# Altium footprint library mechParts.PcbLib: 7 footprints
Each footprint in its own frame and in the unit in brackets; x right, y up, seen from the top. Pads: shape width x height; smd on the part's side, far side on the other; paste and mask are expansions set on the pad; w line width, h text height; cw(c..) or ccw(c..) is an arc to the next point about the centre after c.
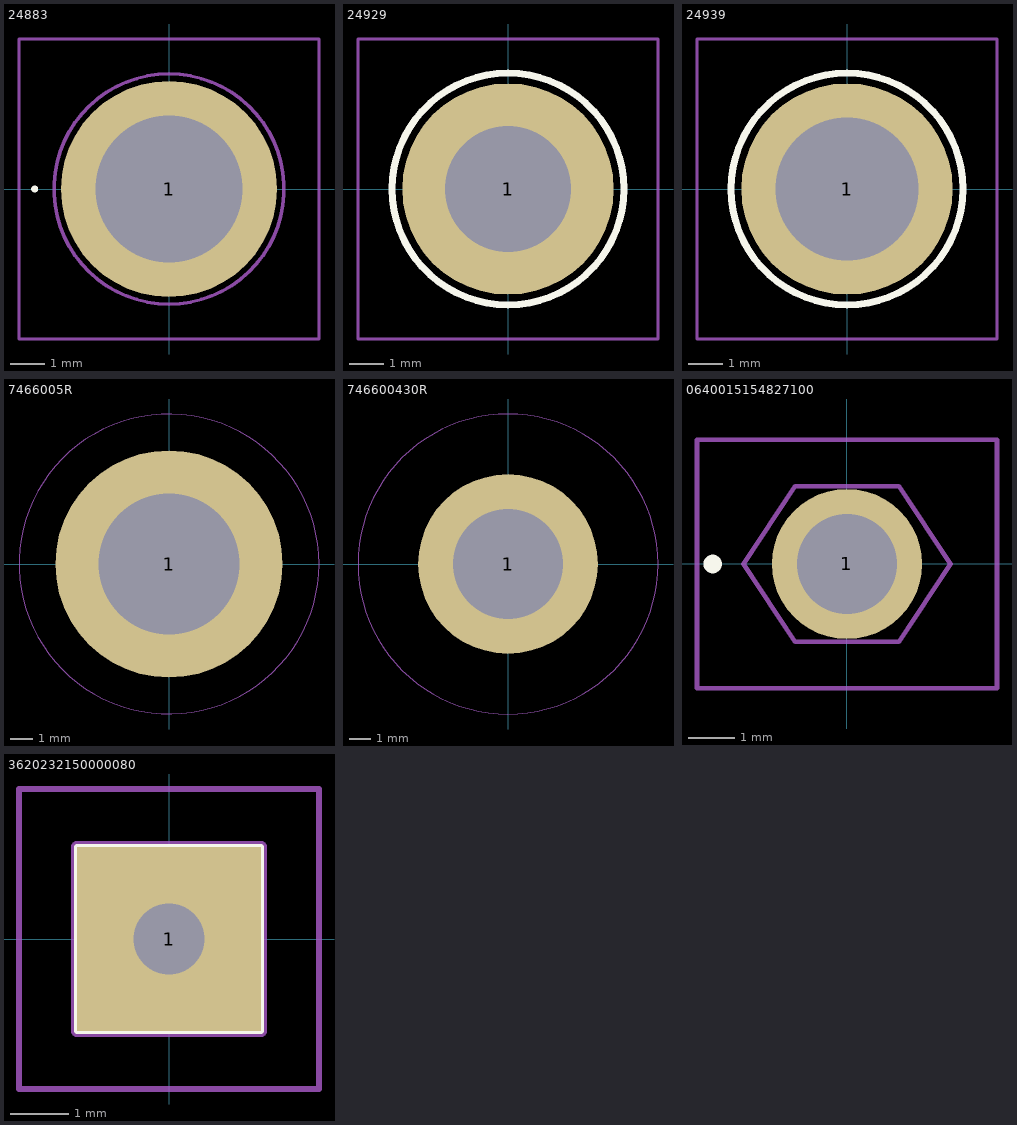
[diagram p0: the footprints below, top view; thin cyan lines are the x and y axes]

## 24883 [mm]
pads (1):
  round 6.2 hole 4.2: 1(0,0)
Top Overlay:
  lines w0.1: -3.9,0 cw(c-3.85,0) -3.8,0 cw(c-3.85,0) -3.9,0
Mechanical 13:
  lines w0.1: 0,-3.3 cw(c0,0) 0,3.3 cw(c0,0) 0,-3.3
Mechanical 15:
  lines w0.1: -4.3,-4.3 -4.3,4.3 4.3,4.3 4.3,-4.3 -4.3,-4.3
3D body "24883.stp": height 5.52, standoff 0, extent -2.781,-2.781 2.781,2.781

## 24929 [mm]
pads (1):
  round 6.2 hole 3.7: 1(0,0)
Top Overlay:
  lines w0.2: -3.4,0 cw(c0,0) 3.4,0 cw(c0,0) -3.4,0
Mechanical 13:
  lines w0.1: -2.78,0 cw(c0,0) 2.78,0 cw(c0,0) -2.78,0
Mechanical 15:
  lines w0.1: -4.4,-4.4 -4.4,4.4 4.4,4.4 4.4,-4.4 -4.4,-4.4
3D body "24929.stp": height 0.13, standoff -1.7, extent -2.781,-2.781 2.781,2.781

## 24939 [mm]
pads (1):
  round 6.2 hole 4.2: 1(0,0)
Top Overlay:
  lines w0.2: -3.4,0 ccw(c0,0) 3.4,0 ccw(c0,0) -3.4,0
Mechanical 13:
  lines w0.1: -2.78,0 ccw(c0,0) 2.78,0 ccw(c0,0) -2.78,0
Mechanical 15:
  lines w0.1: -4.4,-4.4 4.4,-4.4 4.4,4.4 -4.4,4.4 -4.4,-4.4
3D body "24939.stp": height 0.33, standoff -1.5, extent -2.781,-2.781 2.781,2.781

## 7466005R [mm] "SMD with internal through-hole thread, M5-6mm"
height 5
pads (1):
  round 10 / inner round 0 / far side round 0 hole 6.2 unplated: 1(0,0)
Top Paste:
  region: 0.5,4.874 0.5,3.211 0.502,3.211 0.753,3.162 1.24,3.004 1.696,2.772 2.111,2.471 2.473,2.109 2.773,1.695 3.005,1.238 3.162,0.751 3.211,0.5 4.874,0.5 4.846,0.778 4.726,1.323 4.545,1.852 4.305,2.356 4.01,2.83 3.662,3.267 3.267,3.662 2.83,4.01 2.356,4.305 1.852,4.545 1.323,4.726 0.778,4.846
  region: 4.874,-0.5 3.211,-0.5 3.211,-0.502 3.162,-0.753 3.004,-1.24 2.772,-1.696 2.471,-2.111 2.109,-2.473 1.695,-2.773 1.238,-3.005 0.751,-3.162 0.5,-3.211 0.5,-4.874 0.778,-4.846 1.323,-4.726 1.852,-4.545 2.356,-4.305 2.83,-4.01 3.267,-3.662 3.662,-3.267 4.01,-2.83 4.305,-2.356 4.545,-1.852 4.726,-1.323 4.846,-0.778
  region: -0.5,-4.874 -0.5,-3.211 -0.502,-3.211 -0.753,-3.162 -1.24,-3.004 -1.696,-2.772 -2.111,-2.471 -2.473,-2.109 -2.773,-1.695 -3.005,-1.238 -3.162,-0.751 -3.211,-0.5 -4.874,-0.5 -4.846,-0.778 -4.726,-1.323 -4.545,-1.852 -4.305,-2.356 -4.01,-2.83 -3.662,-3.267 -3.267,-3.662 -2.83,-4.01 -2.356,-4.305 -1.852,-4.545 -1.323,-4.726 -0.778,-4.846
  region: -4.874,0.5 -3.211,0.5 -3.211,0.502 -3.162,0.753 -3.004,1.24 -2.772,1.696 -2.471,2.111 -2.109,2.473 -1.695,2.773 -1.238,3.005 -0.751,3.162 -0.5,3.211 -0.5,4.874 -0.778,4.846 -1.323,4.726 -1.852,4.545 -2.356,4.305 -2.83,4.01 -3.267,3.662 -3.662,3.267 -4.01,2.83 -4.305,2.356 -4.545,1.852 -4.726,1.323 -4.846,0.778
Top 3D Body:
  circle w0.1: c0,0 r4.5
Top Courtyard:
  circle w0.05: c0,0 r6.6
  lines w0.05: -0.5,0 0.5,0 ; 0,-0.5 0,0.5
Top Designator:
  text ".Designator" at -7.498,-0.5 h1.5
Top Component Outline:
  circle w0.1: c0,0 r4.5
3D body "7466005.stp": height 5, standoff -1, extent -4.5,-4.491 4.465,4.491

## 746600430R [mm] "SMD with internal through-hole thread, M4-4mm"
height 3
pads (1):
  round 8.5 / inner round 0 / far side round 0 hole 5.2 unplated: 1(0,0)
Top Paste:
  region: 0.5,4.12 0.5,2.704 0.702,2.659 1.093,2.523 1.46,2.331 1.793,2.085 2.085,1.793 2.331,1.459 2.523,1.093 2.659,0.702 2.704,0.5 4.12,0.5 4.092,0.728 3.986,1.176 3.832,1.61 3.631,2.023 3.385,2.412 3.097,2.772 2.772,3.097 2.412,3.385 2.023,3.631 1.61,3.832 1.176,3.986 0.728,4.092
  region: 4.12,-0.5 2.704,-0.5 2.659,-0.702 2.523,-1.093 2.331,-1.46 2.085,-1.793 1.793,-2.085 1.459,-2.331 1.093,-2.523 0.702,-2.659 0.5,-2.704 0.5,-4.12 0.728,-4.092 1.176,-3.986 1.61,-3.832 2.023,-3.631 2.412,-3.385 2.772,-3.097 3.097,-2.772 3.385,-2.412 3.631,-2.023 3.832,-1.61 3.986,-1.176 4.092,-0.728
  region: -0.5,-4.12 -0.5,-2.704 -0.702,-2.659 -1.093,-2.523 -1.46,-2.331 -1.793,-2.085 -2.085,-1.793 -2.331,-1.459 -2.523,-1.093 -2.659,-0.702 -2.704,-0.5 -4.12,-0.5 -4.092,-0.728 -3.986,-1.176 -3.832,-1.61 -3.631,-2.023 -3.385,-2.412 -3.097,-2.772 -2.772,-3.097 -2.412,-3.385 -2.023,-3.631 -1.61,-3.832 -1.176,-3.986 -0.728,-4.092
  region: -4.12,0.5 -2.704,0.5 -2.659,0.702 -2.523,1.093 -2.331,1.46 -2.085,1.793 -1.793,2.085 -1.459,2.331 -1.093,2.523 -0.702,2.659 -0.5,2.704 -0.5,4.12 -0.728,4.092 -1.176,3.986 -1.61,3.832 -2.023,3.631 -2.412,3.385 -2.772,3.097 -3.097,2.772 -3.385,2.412 -3.631,2.023 -3.832,1.61 -3.986,1.176 -4.092,0.728
Top 3D Body:
  circle w0.1: c0,0 r3.5
Top Courtyard:
  circle w0.05: c0,0 r7.1
  lines w0.05: -0.5,0 0.5,0 ; 0,-0.5 0,0.5
Top Component Outline:
  circle w0.1: c0,0 r3.5
3D body "746600430.stp": height 3, standoff -1, extent -3.5,-3.493 3.473,3.493

## 0640015154827100 [mil]
pads (1):
  round 127.48 hole 85: 1(0,0)
Top Overlay:
  lines w7.87: -118.11,0 cw(c-114.17,0) -110.24,0 cw(c-114.17,0) -118.11,0
Mechanical 13:
  lines w3.94: -88.03,0 -44.02,66.02 44.02,66.02 88.03,0 44.02,-66.02 -44.02,-66.02 -88.03,0
Mechanical 15:
  lines w3.94: -127.4,-105.39 127.4,-105.39 127.4,105.39 -127.4,105.39 -127.4,-105.39
3D body "0640-0-15-15-48-27-10-0.stp": height 25.98, standoff -79.02, extent -38.39,-43.75 38.39,43.75

## 3620232150000080 [mm]
pads (1):
  rect 3.175x3.175 / inner round 1.83 / far side rect 3.175x3.175 hole 1.22 unplated: 1(0,0)
Top Overlay:
  lines w0.1: -1.59,-1.59 1.59,-1.59 1.59,1.59 -1.59,1.59 -1.59,-1.59
Mechanical 13:
  lines w0.2: -1.59,-1.59 1.59,-1.59 1.59,1.59 -1.59,1.59 -1.59,-1.59
Mechanical 15:
  lines w0.1: -2.59,-2.59 2.59,-2.59 2.59,2.59 -2.59,2.59 -2.59,-2.59
3D body "3620-2-32-15-00-00-08-0.stp": height 0.77, standoff -2.4, extent -1.587,-7.493 1.587,1.549